# Altium schematic symbol library SDMIO.SchLib: 5 symbols
Pins are listed as number, name and electrical type; pins without a type are passive.

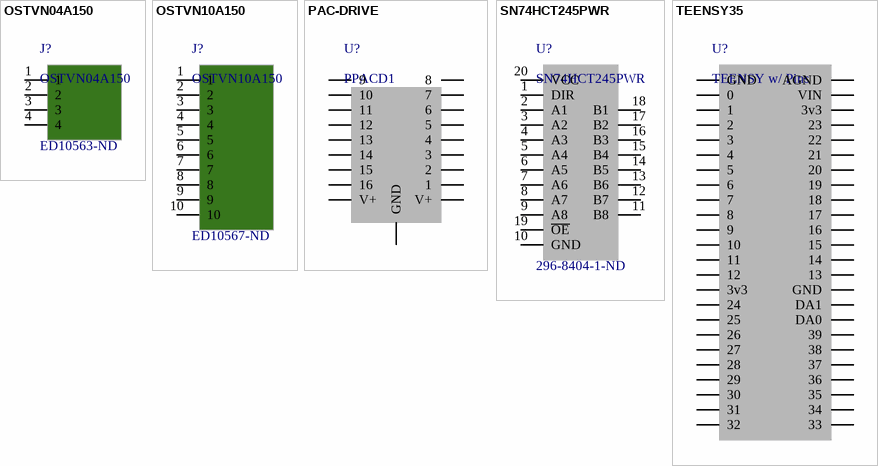
[diagram p0: symbols OSTVN04A150 to TEENSY35]

## OSTVN04A150
designator J?  Supplier Part Number 1: ED10563-ND
Conn Terminal Block 4 POS 2.54mm Solder ST Thru-Hole 6A; Manufacturer: On-Shore Technology; Plating: Brass,Steel; Number of Levels: 1; Number of Positions Per Level: 4; Voltage: 125V; Wire Gauge (Max): 30AWG; Wire Gauge (Min): 20AWG; Pitch: 0.1inch; Supplier 1: Digi-Key; Manufacturer Part Number: OSTVN04A150; RoHS: Yes; Category: Terminal Blocks; Stock 1: 22335; Pricing 1: 1=1.45000, 10=1.01800, 25=0.94920, 50=0.86140, 100=0.85760, 250=0.72420, 500=0.68608, 1000=0.60984, 5000=0.50820 (USD); Mount: Through Hole; Number of Pins: 4; Color: Green; Contact Plating: Brass; Housing Material: Thermoplastic; Min Operating Temperature: -30°C; Max Operating Temperature: 105°C; Packaging: Bulk; Current: 6A; Termination: Screw; Series: OSTVN; RoHS Compliant: Yes; ComponentLink1URL: https://datasheet.ciiva.com/823/ostvnxxa150-823966.pdf?src-supplier=Digi-Key; ComponentLink1Description: https://datasheet.ciiva.com/823/ostvnxxa150-823966.pdf?src-supplier=Digi-Key
footprint OSTVN4A150
pins: 1, 2, 3, 4

## OSTVN10A150
designator J?  Supplier Part Number 1: ED10567-ND
Conn Terminal Block 10 POS 2.54mm Solder ST Thru-Hole 6A; Manufacturer: On-Shore Technology; Plating: Brass,Steel; Number of Levels: 1; Number of Positions Per Level: 10; Voltage: 125V; Wire Gauge (Max): 30AWG; Wire Gauge (Min): 20AWG; Pitch: 0.1inch; Supplier 1: Digi-Key; Manufacturer Part Number: OSTVN10A150; RoHS: Yes; Category: Terminal Blocks; Stock 1: 4575; Pricing 1: 1=3.10000, 10=2.34500, 25=2.17360, 50=1.95440, 100=1.90680, 250=1.66844, 500=1.52544, 1000=1.38243, 5000=1.27120 (USD); Mount: Through Hole; Number of Pins: 10; Color: Green; Contact Plating: Brass; Housing Material: Thermoplastic; Min Operating Temperature: -30°C; Max Operating Temperature: 105°C; Packaging: Bulk; Current: 6A; Termination: Screw; Series: OSTVN; RoHS Compliant: Yes; ComponentLink1URL: https://datasheet.ciiva.com/826/ostvnxxa150-826427.pdf?src-supplier=Digi-Key; ComponentLink1Description: https://datasheet.ciiva.com/826/ostvnxxa150-826427.pdf?src-supplier=Digi-Key
footprint OSTVN10A150
pins: 1, 2, 3, 4, 5, 6, 7, 8, 9, 10

## PAC-DRIVE
designator U?, comment PPACD1
Low-cost driver board for devices such as LEDs, solenoids, lamps etc
footprint PAC Drive
pins: 1, 2, 3, 4, 5, 6, 7, 8, 9, 10, 11, 12, 13, 14, 15, 16, GND, V+, V+

## SN74HCT245PWR
designator U?  Supplier Part Number 1: 296-8404-1-ND
Transceiver, Non-Inverting 1 Element 8 Bit per Element Push-Pull Output 20-TSSOP; Manufacturer: Texas Instruments; Min Supply Voltage: 4.5V; Max Supply Voltage: 5.5V; Number of Elements: 1; Direction: Bidirectional; Operating Supply Voltage: 5V; Propagation Delay: 74ns; Number of Channels: 8; High Level Output Current: -6mA; Low Level Output Current: 6mA; Logic Function: Transceiver,Inverting; Quiescent Current: 8uA; Supplier 1: Digi-Key; Manufacturer Part Number: SN74HCT245PWR; RoHS: Yes; Category: Logic Gates; Stock 1: 81828; Pricing 1: 1=0.54000, 10=0.46100, 25=0.43040, 100=0.34430, 250=0.31968, 500=0.27052, 1000=0.20903 (USD); Mount: Surface Mount; Case/Package: TSSOP; Number of Pins: 20; Weight: 0.002716oz; Contact Plating: Gold; Min Operating Temperature: -40°C; Max Operating Temperature: 85°C; Packaging: Tape and Reel; Package Quantity: 2000; Number of Bits per Element: 8; Number of Circuits: 8; Polarity: Non-Inverting; Turn-On Delay Time: 74ns; Number of Outputs: 8; Number of Bits: 8; Radiation Hardening: No; Lead Free: Lead Free; RoHS Compliant: Yes; REACH SVHC: No SVHC; ComponentLink1URL: https://datasheet.ciiva.com/27051/1008995-27051202.pdf?src-supplier=Jameco; ComponentLink1Description: https://datasheet.ciiva.com/27051/1008995-27051202.pdf?src-supplier=Jameco; ComponentLink2URL: https://datasheet.ciiva.com/15086/getdatasheetpartid-247086-15086443.pdf?src-supplier=Verical; ComponentLink2Description: https://datasheet.ciiva.com/15086/getdatasheetpartid-247086-15086443.pdf?src-supplier=Verical; ComponentLink3URL: https://datasheet.ciiva.com/41456/001016827-da-01-en-ic-bus-8bit-s-sn74hct245pwr-tssop-20-tid-41456682.pdf?src-supplier=Conrad; ComponentLink3Description: https://datasheet.ciiva.com/41456/001016827-da-01-en-ic-bus-8bit-s-sn74hct245pwr-tssop-20-tid-41456682.pdf?src-supplier=Conrad; ComponentLink4URL: https://datasheet.ciiva.com/28594/1835034-28594298.pdf?src-supplier=Element14; ComponentLink4Description: https://datasheet.ciiva.com/28594/1835034-28594298.pdf?src-supplier=Element14; ComponentLink5URL: https://datasheet.ciiva.com/46442/1835034-46442670.pdf?src-supplier=Element14; ComponentLink5Description: https://datasheet.ciiva.com/46442/1835034-46442670.pdf?src-supplier=Element14; ComponentLink6URL: https://datasheet.ciiva.com/1833/sn74hct245-1833932.pdf?src-supplier=Digi-Key; ComponentLink6Description: https://datasheet.ciiva.com/1833/sn74hct245-1833932.pdf?src-supplier=Digi-Key; ComponentLink7URL: https://datasheet.ciiva.com/1833/sn74hct245-1833931.pdf?src-supplier=Digi-Key; ComponentLink7Description: https://datasheet.ciiva.com/1833/sn74hct245-1833931.pdf?src-supplier=Digi-Key; ComponentLink8URL: https://datasheet.ciiva.com/1833/sn74hct245-1833933.pdf?src-supplier=Digi-Key; ComponentLink8Description: https://datasheet.ciiva.com/1833/sn74hct245-1833933.pdf?src-supplier=Digi-Key
footprint TSOP65P640X120-20N (TSOP, 20-Leads, Body 6.50x4.40mm, Pitch 0.65mm, IPC Medium Density)
pins: 1 DIR, 2 A1, 3 A2, 4 A3, 5 A4, 6 A5, 7 A6, 8 A7, 9 A8, 10 GND, 11 B8, 12 B7, 13 B6, 14 B5, 15 B4, 16 B3, 17 B2, 18 B1, 19 ~{OE}, 20 VCC

## TEENSY35
designator U?, comment TEENSY w/ Pins
footprint TEENSY35
pins: 0, 1, 2, 3, 3v3, 3v3, 4, 5, 6, 7, 8, 9, 10, 11, 12, 13, 14, 15, 16, 17, 18, 19, 20, 21, 22, 23, 24, 25, 26, 27, 28, 29, 30, 31, 32, 33, 34, 35, 36, 37, 38, 39, AGND, DA0, DA1, GND, GND, VIN